# EAGLE library part 750030404 (library wurth_electronics_midcom_inc_v2-1)
Package Style: EFD15 Mounting: SMD Pins: 10 pins Bobbin: 070-2644 Best pinouts for production vary per application. Please contact Wurth Electronics Midcom, Inc. for assistance with your custom design. Website: Wurth Electronics Midcom <http://www.we-online.com/midcom> Contact us Wurth Electronics Midcom, Inc. 121 Airport Dr. Watertown, SD 57201 Phone: (605) 886-4385 Fax: (605) 886-4486 E-Mail: midcom@we-online.com
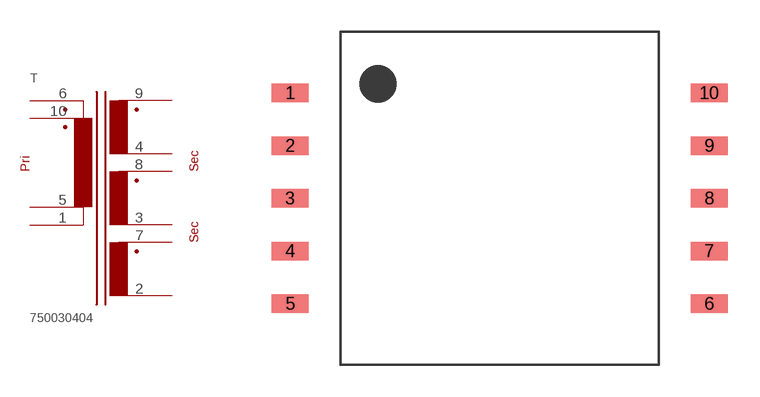
[diagram p360: symbol with the pads of EFD15_SMD_H_10PIN_(2644); footprint EFD15_SMD_H_10PIN_(2644)]

Designator prefix T

## 750030404  [EFD15_SMD_H_10PIN_(2644)]
1  1  pas
2  2  pas
3  3  pas
4  4  pas
5  5  pas
6  6  pas
7  7  pas
8  8  pas
9  9  pas
10  10  pas

## Footprint EFD15_SMD_H_10PIN_(2644) (pad centres in mm)
Package Style: EFD15 Mounting: SMD Pins: 10 Bobbin: 070-2644
smd 1.753 x 0.864: 1 -9.893,4.978; 2 -9.893,2.489; 3 -9.893,0; 4 -9.893,-2.489; 5 -9.893,-4.978; 6 9.893,-4.978; 7 9.893,-2.489; 8 9.893,0; 9 9.893,2.489; 10 9.893,4.978